# Altium integrated library WA-SMSI_rev15a.intlib: 41 symbols
Pins are listed as number, name and electrical type; pins without a type are passive.

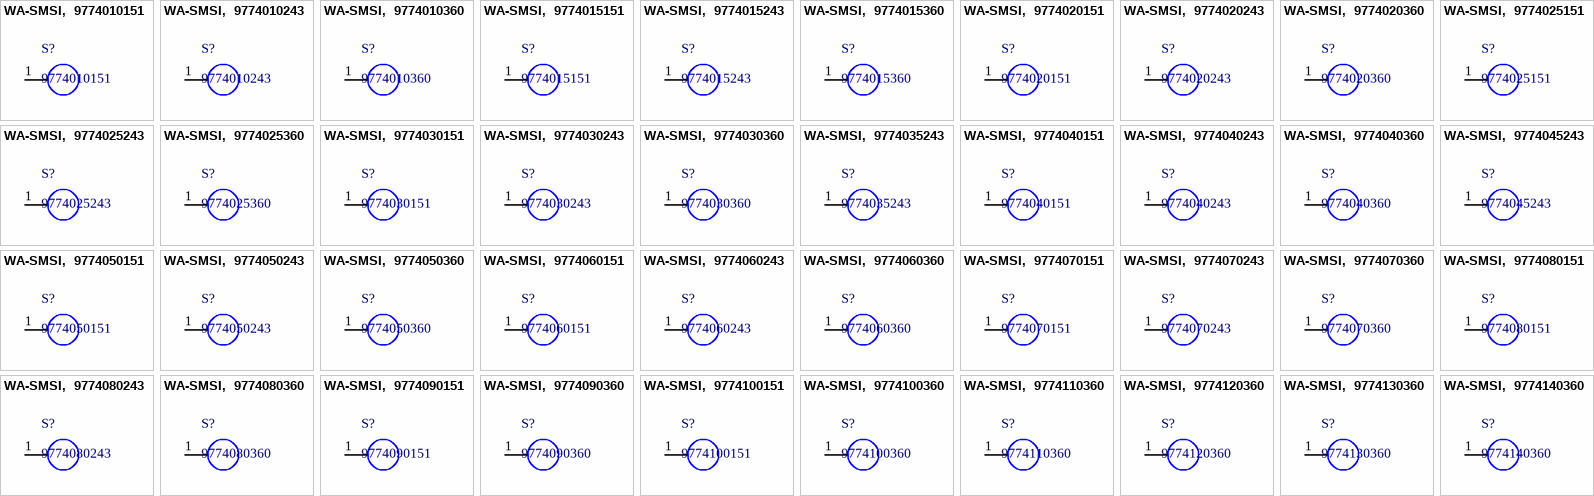
[diagram p0: symbols WA-SMSI,  9774010151 to WA-SMSI,  9774140360]

## WA-SMSI,  9774010151
designator S?, comment 9774010151
WA-SMSI SMD Steel Spacer with internal Thread; Manufacturer: Wurth Elektronik; partNo: 9774010151; ComponentLink1Description: Manufacturer; ComponentLink1URL: http://www.we-online.de; Created by: Baojun Chen; Created Date: 20.Oct.2015; ComponentLink2Description: Datasheet; ComponentLink2URL: http://katalog.we-online.de/em/datasheet/9774010151.pdf
footprint 9774010151 (SMD Steel Spacer with internal Thread)
pins: 1

## WA-SMSI,  9774010243
designator S?, comment 9774010243
WA-SMSI SMD Steel Spacer with internal Thread; Manufacturer: Wurth Elektronik; partNo: 9774010243; ComponentLink1Description: Manufacturer; ComponentLink1URL: http://www.we-online.de; Created by: Baojun Chen; Created Date: 20.Oct.2015; ComponentLink2Description: Datasheet; ComponentLink2URL: http://katalog.we-online.de/em/datasheet/9774010243.pdf
footprint 9774010243 (SMD Steel Spacer with internal Thread)
pins: 1

## WA-SMSI,  9774010360
designator S?, comment 9774010360
WA-SMSI SMD Steel Spacer with internal Thread; Manufacturer: Wurth Elektronik; partNo: 9774010360; ComponentLink1Description: Manufacturer; ComponentLink1URL: http://www.we-online.de; Created by: Baojun Chen; Created Date: 20.Oct.2015; ComponentLink2Description: Datasheet; ComponentLink2URL: http://katalog.we-online.de/em/datasheet/9774010360.pdf
footprint 9774010360 (SMD Steel Spacer with internal Thread)
pins: 1

## WA-SMSI,  9774015151
designator S?, comment 9774015151
WA-SMSI SMD Steel Spacer with internal Thread; Manufacturer: Wurth Elektronik; partNo: 9774015151; ComponentLink1Description: Manufacturer; ComponentLink1URL: http://www.we-online.de; Created by: Baojun Chen; Created Date: 20.Oct.2015; ComponentLink2Description: Datasheet; ComponentLink2URL: http://katalog.we-online.de/em/datasheet/9774015151.pdf
footprint 9774015151 (SMD Steel Spacer with internal Thread)
pins: 1

## WA-SMSI,  9774015243
designator S?, comment 9774015243
WA-SMSI SMD Steel Spacer with internal Thread; Manufacturer: Wurth Elektronik; partNo: 9774015243; ComponentLink1Description: Manufacturer; ComponentLink1URL: http://www.we-online.de; Created by: Baojun Chen; Created Date: 20.Oct.2015; ComponentLink2Description: Datasheet; ComponentLink2URL: http://katalog.we-online.de/em/datasheet/9774015243.pdf
footprint 9774015243 (SMD Steel Spacer with internal Thread)
pins: 1

## WA-SMSI,  9774015360
designator S?, comment 9774015360
WA-SMSI SMD Steel Spacer with internal Thread; Manufacturer: Wurth Elektronik; partNo: 9774015360; ComponentLink1Description: Manufacturer; ComponentLink1URL: http://www.we-online.de; Created by: Baojun Chen; Created Date: 20.Oct.2015; ComponentLink2Description: Datasheet; ComponentLink2URL: http://katalog.we-online.de/em/datasheet/9774015360.pdf
footprint 9774015360 (SMD Steel Spacer with internal Thread)
pins: 1

## WA-SMSI,  9774020151
designator S?, comment 9774020151
WA-SMSI SMD Steel Spacer with internal Thread; Manufacturer: Wurth Elektronik; partNo: 9774020151; ComponentLink1Description: Manufacturer; ComponentLink1URL: http://www.we-online.de; Created by: Baojun Chen; Created Date: 20.Oct.2015; ComponentLink2Description: Datasheet; ComponentLink2URL: http://katalog.we-online.de/em/datasheet/9774020151.pdf
footprint 9774020151 (SMD Steel Spacer with internal Thread)
pins: 1

## WA-SMSI,  9774020243
designator S?, comment 9774020243
WA-SMSI SMD Steel Spacer with internal Thread; Manufacturer: Wurth Elektronik; partNo: 9774020243; ComponentLink1Description: Manufacturer; ComponentLink1URL: http://www.we-online.de; Created by: Baojun Chen; Created Date: 20.Oct.2015; ComponentLink2Description: Datasheet; ComponentLink2URL: http://katalog.we-online.de/em/datasheet/9774020243.pdf
footprint 9774020243 (SMD Steel Spacer with internal Thread)
pins: 1

## WA-SMSI,  9774020360
designator S?, comment 9774020360
WA-SMSI SMD Steel Spacer with internal Thread; Manufacturer: Wurth Elektronik; partNo: 9774020360; ComponentLink1Description: Manufacturer; ComponentLink1URL: http://www.we-online.de; Created by: Baojun Chen; Created Date: 20.Oct.2015; ComponentLink2Description: Datasheet; ComponentLink2URL: http://katalog.we-online.de/em/datasheet/9774020360.pdf
footprint 9774020360 (SMD Steel Spacer with internal Thread)
pins: 1

## WA-SMSI,  9774025151
designator S?, comment 9774025151
WA-SMSI SMD Steel Spacer with internal Thread; Manufacturer: Wurth Elektronik; partNo: 9774025151; ComponentLink1Description: Manufacturer; ComponentLink1URL: http://www.we-online.de; Created by: Baojun Chen; Created Date: 20.Oct.2015; ComponentLink2Description: Datasheet; ComponentLink2URL: http://katalog.we-online.de/em/datasheet/9774025151.pdf
footprint 9774025151 (SMD Steel Spacer with internal Thread)
pins: 1

## WA-SMSI,  9774025243
designator S?, comment 9774025243
WA-SMSI SMD Steel Spacer with internal Thread; Manufacturer: Wurth Elektronik; partNo: 9774025243; ComponentLink1Description: Manufacturer; ComponentLink1URL: http://www.we-online.de; Created by: Baojun Chen; Created Date: 20.Oct.2015; ComponentLink2Description: Datasheet; ComponentLink2URL: http://katalog.we-online.de/em/datasheet/9774025243.pdf
footprint 9774025243 (SMD Steel Spacer with internal Thread)
pins: 1

## WA-SMSI,  9774025360
designator S?, comment 9774025360
WA-SMSI SMD Steel Spacer with internal Thread; Manufacturer: Wurth Elektronik; partNo: 9774025360; ComponentLink1Description: Manufacturer; ComponentLink1URL: http://www.we-online.de; Created by: Baojun Chen; Created Date: 20.Oct.2015; ComponentLink2Description: Datasheet; ComponentLink2URL: http://katalog.we-online.de/em/datasheet/9774025360.pdf
footprint 9774025360 (SMD Steel Spacer with internal Thread)
pins: 1

## WA-SMSI,  9774030151
designator S?, comment 9774030151
WA-SMSI SMD Steel Spacer with internal Thread; Manufacturer: Wurth Elektronik; partNo: 9774030151; ComponentLink1Description: Manufacturer; ComponentLink1URL: http://www.we-online.de; Created by: Baojun Chen; Created Date: 20.Oct.2015; ComponentLink2Description: Datasheet; ComponentLink2URL: http://katalog.we-online.de/em/datasheet/9774030151.pdf
footprint 9774030151 (SMD Steel Spacer with internal Thread)
pins: 1

## WA-SMSI,  9774030243
designator S?, comment 9774030243
WA-SMSI SMD Steel Spacer with internal Thread; Manufacturer: Wurth Elektronik; partNo: 9774030243; ComponentLink1Description: Manufacturer; ComponentLink1URL: http://www.we-online.de; Created by: Baojun Chen; Created Date: 20.Oct.2015; ComponentLink2Description: Datasheet; ComponentLink2URL: http://katalog.we-online.de/em/datasheet/9774030243.pdf
footprint 9774030243 (SMD Steel Spacer with internal Thread)
pins: 1

## WA-SMSI,  9774030360
designator S?, comment 9774030360
WA-SMSI SMD Steel Spacer with internal Thread; Manufacturer: Wurth Elektronik; partNo: 9774030360; ComponentLink1Description: Manufacturer; ComponentLink1URL: http://www.we-online.de; Created by: Baojun Chen; Created Date: 20.Oct.2015; ComponentLink2Description: Datasheet; ComponentLink2URL: http://katalog.we-online.de/em/datasheet/9774030360.pdf
footprint 9774030360 (SMD Steel Spacer with internal Thread)
pins: 1

## WA-SMSI,  9774035243
designator S?, comment 9774035243
WA-SMSI SMD Steel Spacer with internal Thread; Manufacturer: Wurth Elektronik; partNo: 9774035243; ComponentLink1Description: Manufacturer; ComponentLink1URL: http://www.we-online.de; Created by: Baojun Chen; Created Date: 20.Oct.2015; ComponentLink2Description: Datasheet; ComponentLink2URL: http://katalog.we-online.de/em/datasheet/9774035243.pdf
footprint 9774035243 (SMD Steel Spacer with internal Thread)
pins: 1

## WA-SMSI,  9774040151
designator S?, comment 9774040151
WA-SMSI SMD Steel Spacer with internal Thread; Manufacturer: Wurth Elektronik; partNo: 9774040151; ComponentLink1Description: Manufacturer; ComponentLink1URL: http://www.we-online.de; Created by: Baojun Chen; Created Date: 20.Oct.2015; ComponentLink2Description: Datasheet; ComponentLink2URL: http://katalog.we-online.de/em/datasheet/9774040151.pdf
footprint 9774040151 (SMD Steel Spacer with internal Thread)
pins: 1

## WA-SMSI,  9774040243
designator S?, comment 9774040243
WA-SMSI SMD Steel Spacer with internal Thread; Manufacturer: Wurth Elektronik; partNo: 9774040243; ComponentLink1Description: Manufacturer; ComponentLink1URL: http://www.we-online.de; Created by: Baojun Chen; Created Date: 20.Oct.2015; ComponentLink2Description: Datasheet; ComponentLink2URL: http://katalog.we-online.de/em/datasheet/9774040243.pdf
footprint 9774040243 (SMD Steel Spacer with internal Thread)
pins: 1

## WA-SMSI,  9774040360
designator S?, comment 9774040360
WA-SMSI SMD Steel Spacer with internal Thread; Manufacturer: Wurth Elektronik; partNo: 9774040360; ComponentLink1Description: Manufacturer; ComponentLink1URL: http://www.we-online.de; Created by: Baojun Chen; Created Date: 20.Oct.2015; ComponentLink2Description: Datasheet; ComponentLink2URL: http://katalog.we-online.de/em/datasheet/9774040360.pdf
footprint 9774040360 (SMD Steel Spacer with internal Thread)
pins: 1

## WA-SMSI,  9774045243
designator S?, comment 9774045243
WA-SMSI SMD Steel Spacer with internal Thread; Manufacturer: Wurth Elektronik; partNo: 9774045243; ComponentLink1Description: Manufacturer; ComponentLink1URL: http://www.we-online.de; Created by: Baojun Chen; Created Date: 20.Oct.2015; ComponentLink2Description: Datasheet; ComponentLink2URL: http://katalog.we-online.de/em/datasheet/9774045243.pdf
footprint 9774045243 (SMD Steel Spacer with internal Thread)
pins: 1

## WA-SMSI,  9774050151
designator S?, comment 9774050151
WA-SMSI SMD Steel Spacer with internal Thread; Manufacturer: Wurth Elektronik; partNo: 9774050151; ComponentLink1Description: Manufacturer; ComponentLink1URL: http://www.we-online.de; Created by: Baojun Chen; Created Date: 20.Oct.2015; ComponentLink2Description: Datasheet; ComponentLink2URL: http://katalog.we-online.de/em/datasheet/9774050151.pdf
footprint 9774050151 (SMD Steel Spacer with internal Thread)
pins: 1

## WA-SMSI,  9774050243
designator S?, comment 9774050243
WA-SMSI SMD Steel Spacer with internal Thread; Manufacturer: Wurth Elektronik; partNo: 9774050243; ComponentLink1Description: Manufacturer; ComponentLink1URL: http://www.we-online.de; Created by: Baojun Chen; Created Date: 20.Oct.2015; ComponentLink2Description: Datasheet; ComponentLink2URL: http://katalog.we-online.de/em/datasheet/9774050243.pdf
footprint 9774050243 (SMD Steel Spacer with internal Thread)
pins: 1

## WA-SMSI,  9774050360
designator S?, comment 9774050360
WA-SMSI SMD Steel Spacer with internal Thread; Manufacturer: Wurth Elektronik; partNo: 9774050360; ComponentLink1Description: Manufacturer; ComponentLink1URL: http://www.we-online.de; Created by: Baojun Chen; Created Date: 20.Oct.2015; ComponentLink2Description: Datasheet; ComponentLink2URL: http://katalog.we-online.de/em/datasheet/9774050360.pdf
footprint 9774050360 (SMD Steel Spacer with internal Thread)
pins: 1

## WA-SMSI,  9774060151
designator S?, comment 9774060151
WA-SMSI SMD Steel Spacer with internal Thread; Manufacturer: Wurth Elektronik; partNo: 9774060151; ComponentLink1Description: Manufacturer; ComponentLink1URL: http://www.we-online.de; Created by: Baojun Chen; Created Date: 20.Oct.2015; ComponentLink2Description: Datasheet; ComponentLink2URL: http://katalog.we-online.de/em/datasheet/9774060151.pdf
footprint 9774060151 (SMD Steel Spacer with internal Thread)
pins: 1

## WA-SMSI,  9774060243
designator S?, comment 9774060243
WA-SMSI SMD Steel Spacer with internal Thread; Manufacturer: Wurth Elektronik; partNo: 9774060243; ComponentLink1Description: Manufacturer; ComponentLink1URL: http://www.we-online.de; Created by: Baojun Chen; Created Date: 20.Oct.2015; ComponentLink2Description: Datasheet; ComponentLink2URL: http://katalog.we-online.de/em/datasheet/9774060243.pdf
footprint 9774060243 (SMD Steel Spacer with internal Thread)
pins: 1

## WA-SMSI,  9774060360
designator S?, comment 9774060360
WA-SMSI SMD Steel Spacer with internal Thread; Manufacturer: Wurth Elektronik; partNo: 9774060360; ComponentLink1Description: Manufacturer; ComponentLink1URL: http://www.we-online.de; Created by: Baojun Chen; Created Date: 20.Oct.2015; ComponentLink2Description: Datasheet; ComponentLink2URL: http://katalog.we-online.de/em/datasheet/9774060360.pdf
footprint 9774060360 (SMD Steel Spacer with internal Thread)
pins: 1

## WA-SMSI,  9774070151
designator S?, comment 9774070151
WA-SMSI SMD Steel Spacer with internal Thread; Manufacturer: Wurth Elektronik; partNo: 9774070151; ComponentLink1Description: Manufacturer; ComponentLink1URL: http://www.we-online.de; Created by: Baojun Chen; Created Date: 20.Oct.2015; ComponentLink2Description: Datasheet; ComponentLink2URL: http://katalog.we-online.de/em/datasheet/9774070151.pdf
footprint 9774070151 (SMD Steel Spacer with internal Thread)
pins: 1

## WA-SMSI,  9774070243
designator S?, comment 9774070243
WA-SMSI SMD Steel Spacer with internal Thread; Manufacturer: Wurth Elektronik; partNo: 9774070243; ComponentLink1Description: Manufacturer; ComponentLink1URL: http://www.we-online.de; Created by: Baojun Chen; Created Date: 20.Oct.2015; ComponentLink2Description: Datasheet; ComponentLink2URL: http://katalog.we-online.de/em/datasheet/9774070243.pdf
footprint 9774070243 (SMD Steel Spacer with internal Thread)
pins: 1

## WA-SMSI,  9774070360
designator S?, comment 9774070360
WA-SMSI SMD Steel Spacer with internal Thread; Manufacturer: Wurth Elektronik; partNo: 9774070360; ComponentLink1Description: Manufacturer; ComponentLink1URL: http://www.we-online.de; Created by: Baojun Chen; Created Date: 20.Oct.2015; ComponentLink2Description: Datasheet; ComponentLink2URL: http://katalog.we-online.de/em/datasheet/9774070360.pdf
footprint 9774070360 (SMD Steel Spacer with internal Thread)
pins: 1

## WA-SMSI,  9774080151
designator S?, comment 9774080151
WA-SMSI SMD Steel Spacer with internal Thread; Manufacturer: Wurth Elektronik; partNo: 9774080151; ComponentLink1Description: Manufacturer; ComponentLink1URL: http://www.we-online.de; Created by: Baojun Chen; Created Date: 20.Oct.2015; ComponentLink2Description: Datasheet; ComponentLink2URL: http://katalog.we-online.de/em/datasheet/9774080151.pdf
footprint 9774080151 (SMD Steel Spacer with internal Thread)
pins: 1

## WA-SMSI,  9774080243
designator S?, comment 9774080243
WA-SMSI SMD Steel Spacer with internal Thread; Manufacturer: Wurth Elektronik; partNo: 9774080243; ComponentLink1Description: Manufacturer; ComponentLink1URL: http://www.we-online.de; Created by: Baojun Chen; Created Date: 20.Oct.2015; ComponentLink2Description: Datasheet; ComponentLink2URL: http://katalog.we-online.de/em/datasheet/9774080243.pdf
footprint 9774080243 (SMD Steel Spacer with internal Thread)
pins: 1

## WA-SMSI,  9774080360
designator S?, comment 9774080360
WA-SMSI SMD Steel Spacer with internal Thread; Manufacturer: Wurth Elektronik; partNo: 9774080360; ComponentLink1Description: Manufacturer; ComponentLink1URL: http://www.we-online.de; Created by: Baojun Chen; Created Date: 20.Oct.2015; ComponentLink2Description: Datasheet; ComponentLink2URL: http://katalog.we-online.de/em/datasheet/9774080360.pdf
footprint 9774080360 (SMD Steel Spacer with internal Thread)
pins: 1

## WA-SMSI,  9774090151
designator S?, comment 9774090151
WA-SMSI SMD Steel Spacer with internal Thread; Manufacturer: Wurth Elektronik; partNo: 9774090151; ComponentLink1Description: Manufacturer; ComponentLink1URL: http://www.we-online.de; Created by: Baojun Chen; Created Date: 20.Oct.2015; ComponentLink2Description: Datasheet; ComponentLink2URL: http://katalog.we-online.de/em/datasheet/9774090151.pdf
footprint 9774090151 (SMD Steel Spacer with internal Thread)
pins: 1

## WA-SMSI,  9774090360
designator S?, comment 9774090360
WA-SMSI SMD Steel Spacer with internal Thread; Manufacturer: Wurth Elektronik; partNo: 9774090360; ComponentLink1Description: Manufacturer; ComponentLink1URL: http://www.we-online.de; Created by: Baojun Chen; Created Date: 20.Oct.2015; ComponentLink2Description: Datasheet; ComponentLink2URL: http://katalog.we-online.de/em/datasheet/9774090360.pdf
footprint 9774090360 (SMD Steel Spacer with internal Thread)
pins: 1

## WA-SMSI,  9774100151
designator S?, comment 9774100151
WA-SMSI SMD Steel Spacer with internal Thread; Manufacturer: Wurth Elektronik; partNo: 9774100151; ComponentLink1Description: Manufacturer; ComponentLink1URL: http://www.we-online.de; Created by: Baojun Chen; Created Date: 20.Oct.2015; ComponentLink2Description: Datasheet; ComponentLink2URL: http://katalog.we-online.de/em/datasheet/9774100151.pdf
footprint 9774100151 (SMD Steel Spacer with internal Thread)
pins: 1

## WA-SMSI,  9774100360
designator S?, comment 9774100360
WA-SMSI SMD Steel Spacer with internal Thread; Manufacturer: Wurth Elektronik; partNo: 9774100360; ComponentLink1Description: Manufacturer; ComponentLink1URL: http://www.we-online.de; Created by: Baojun Chen; Created Date: 20.Oct.2015; ComponentLink2Description: Datasheet; ComponentLink2URL: http://katalog.we-online.de/em/datasheet/9774100360.pdf
footprint 9774100360 (SMD Steel Spacer with internal Thread)
pins: 1

## WA-SMSI,  9774110360
designator S?, comment 9774110360
WA-SMSI SMD Steel Spacer with internal Thread; Manufacturer: Wurth Elektronik; partNo: 9774110360; ComponentLink1Description: Manufacturer; ComponentLink1URL: http://www.we-online.de; Created by: Baojun Chen; Created Date: 20.Oct.2015; ComponentLink2Description: Datasheet; ComponentLink2URL: http://katalog.we-online.de/em/datasheet/9774110360.pdf
footprint 9774110360 (SMD Steel Spacer with internal Thread)
pins: 1

## WA-SMSI,  9774120360
designator S?, comment 9774120360
WA-SMSI SMD Steel Spacer with internal Thread; Manufacturer: Wurth Elektronik; partNo: 9774120360; ComponentLink1Description: Manufacturer; ComponentLink1URL: http://www.we-online.de; Created by: Baojun Chen; Created Date: 20.Oct.2015; ComponentLink2Description: Datasheet; ComponentLink2URL: http://katalog.we-online.de/em/datasheet/9774120360.pdf
footprint 9774120360 (SMD Steel Spacer with internal Thread)
pins: 1

## WA-SMSI,  9774130360
designator S?, comment 9774130360
WA-SMSI SMD Steel Spacer with internal Thread; Manufacturer: Wurth Elektronik; partNo: 9774130360; ComponentLink1Description: Manufacturer; ComponentLink1URL: http://www.we-online.de; Created by: Baojun Chen; Created Date: 20.Oct.2015; ComponentLink2Description: Datasheet; ComponentLink2URL: http://katalog.we-online.de/em/datasheet/9774130360.pdf
footprint 9774130360 (SMD Steel Spacer with internal Thread)
pins: 1

## WA-SMSI,  9774140360
designator S?, comment 9774140360
WA-SMSI SMD Steel Spacer with internal Thread; Manufacturer: Wurth Elektronik; partNo: 9774140360; ComponentLink1Description: Manufacturer; ComponentLink1URL: http://www.we-online.de; Created by: Baojun Chen; Created Date: 20.Oct.2015; ComponentLink2Description: Datasheet; ComponentLink2URL: http://katalog.we-online.de/em/datasheet/9774140360.pdf
footprint 9774140360 (SMD Steel Spacer with internal Thread)
pins: 1

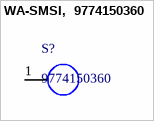
[diagram p1: symbol WA-SMSI,  9774150360]

## WA-SMSI,  9774150360
designator S?, comment 9774150360
WA-SMSI SMD Steel Spacer with internal Thread; Manufacturer: Wurth Elektronik; partNo: 9774150360; ComponentLink1Description: Manufacturer; ComponentLink1URL: http://www.we-online.de; Created by: Baojun Chen; Created Date: 20.Oct.2015; ComponentLink2Description: Datasheet; ComponentLink2URL: http://katalog.we-online.de/em/datasheet/9774150360.pdf
footprint 9774150360 (SMD Steel Spacer with internal Thread)
pins: 1